# Altium footprint library Film Capasitor.PcbLib: 1 footprints
Each footprint in its own frame and in the unit in brackets; x right, y up, seen from the top. Pads: shape width x height; smd on the part's side, far side on the other; paste and mask are expansions set on the pad; w line width, h text height; cw(c..) or ccw(c..) is an arc to the next point about the centre after c.
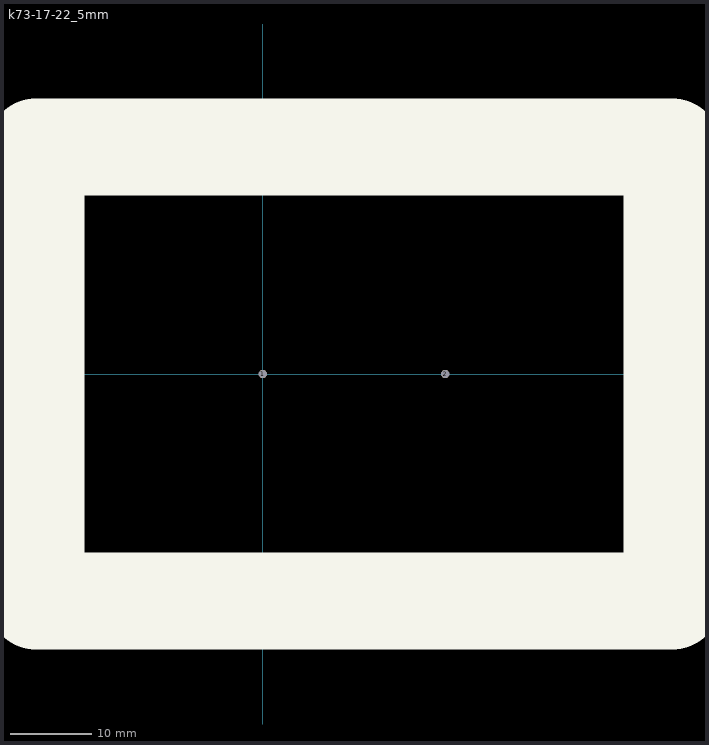
[diagram p0: the footprint, top view; thin cyan lines are the x and y axes]

## k73-17-22_5mm [mm]
pads (2):
  round 1 / inner round 2 / far side round 2 hole 1: 1(0,0) 2(22.5,0)
Top Overlay:
  lines w12: -28,-28 -28,28 0,28 22.5,28 50.5,28 50.5,-28 22.5,-28 0,-28 -28,-28